# Altium integrated library ST Automotive Voltage Regulator.IntLib: 2 symbols
Pins are listed as number, name and electrical type; pins without a type are passive.

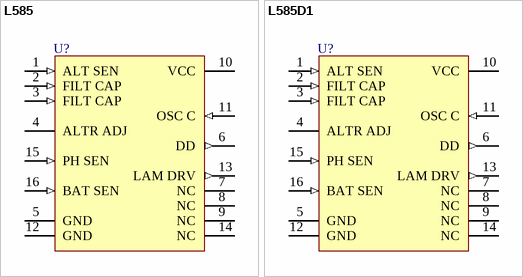
[diagram p0: symbols L585 to L585D1]

## L585
designator U?
Car Alternator Regulator; Note: Pin numbers 7, 8, 9 and 14 are Not Connected (NC); Pins 7, 8 and 9 must be left floating.; Published: 24-Aug-2001; LatestRevisionDate: 6-Jun-2005; LatestRevisionNote: Stylized 3D Model Added.; DatasheetDocument: Nov-1991; PackageDocument: Apr-1996; PackageReference: DIP16; Publisher: Altium Limited; ComponentLink1Description: Manufacturer Link; ComponentLink1URL: http://www.st.com/; ComponentLink2Description: Datasheet; ComponentLink2URL: http://www.st.com/stonline/products/literature/ds/1368/l585.pdf
footprint DIP16 (DIP; 16 Leads; Row Spacing 7.62 mm; Pitch 2.54 mm)
3D model DIP16 (DIP; 16 Leads; Row Spacing 7.62 mm; Pitch 2.54 mm)
pins: 1 ALT SEN (in), 2 FILT CAP (in), 3 FILT CAP (in), 4 ALTR ADJ, 5 GND (power), 6 DD (out), 7 NC, 8 NC, 9 NC, 10 VCC (power), 11 OSC C (in), 12 GND (power), 13 LAM DRV (out), 14 NC, 15 PH SEN (in), 16 BAT SEN (in)

## L585D1
designator U?
Car Alternator Regulator; Note: Pin numbers 7, 8, 9 and 14 are Not Connected (NC); Pins 7, 8 and 9 must be left floating.; Published: 24-Aug-2001; LatestRevisionDate: 6-Jun-2005; LatestRevisionNote: Stylized 3D Model Added.; DatasheetDocument: Nov-1991; PackageDocument: May-1998; PackageReference: SO16; Publisher: Altium Limited; ComponentLink1Description: Manufacturer Link; ComponentLink1URL: http://www.st.com/; ComponentLink2Description: Datasheet; ComponentLink2URL: http://www.st.com/stonline/products/literature/ds/1368/l585.pdf
footprint SO16 (Small Outline; 16 Leads; Body Width 3.9 mm; Pitch 1.27 mm)
3D model SO16 (Small Outline; 16 Leads; Body Width 3.9 mm; Pitch 1.27 mm)
pins: 1 ALT SEN (in), 2 FILT CAP (in), 3 FILT CAP (in), 4 ALTR ADJ, 5 GND (power), 6 DD (out), 7 NC, 8 NC, 9 NC, 10 VCC (power), 11 OSC C (in), 12 GND (power), 13 LAM DRV (out), 14 NC, 15 PH SEN (in), 16 BAT SEN (in)